# EAGLE library part 61001213321 (library Wuerth_Elektronik_eiCan_Pin_&_Socked_Headers_v1.3)
WR-PHD 2.54mm SMT Socket Header, 12 Pins
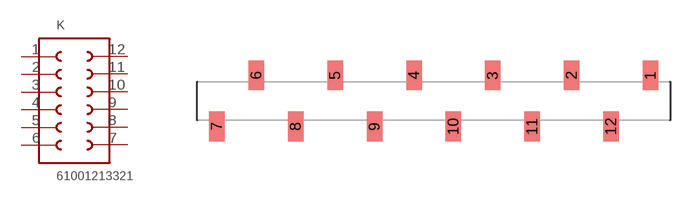
[diagram p243: symbol with the pads of 61001213321; footprint 61001213321]

Designator prefix K

## 61001213321  [61001213321]
1  1  pas
2  2  pas
3  3  pas
4  4  pas
5  5  pas
6  6  pas
7  7  pas
8  8  pas
9  9  pas
10  10  pas
11  11  pas
12  12  pas

## Footprint 61001213321 (pad centres in mm)
WR-PHD 2.54mm SMT Socket Header, 12 Pins
smd 1 x 1.91: 1 13.97,1.645; 2 8.89,1.645; 3 3.81,1.645; 4 -1.27,1.645; 5 -6.35,1.645; 6 -11.43,1.645; 7 -13.97,-1.645; 8 -8.89,-1.645; 9 -3.81,-1.645; 10 1.27,-1.645; 11 6.35,-1.645; 12 11.43,-1.645